# Altium footprint library 数码管.PcbLib: 7 footprints
Each footprint in its own frame and in the unit in brackets; x right, y up, seen from the top. Pads: shape width x height; smd on the part's side, far side on the other; paste and mask are expansions set on the pad; w line width, h text height; cw(c..) or ccw(c..) is an arc to the next point about the centre after c.
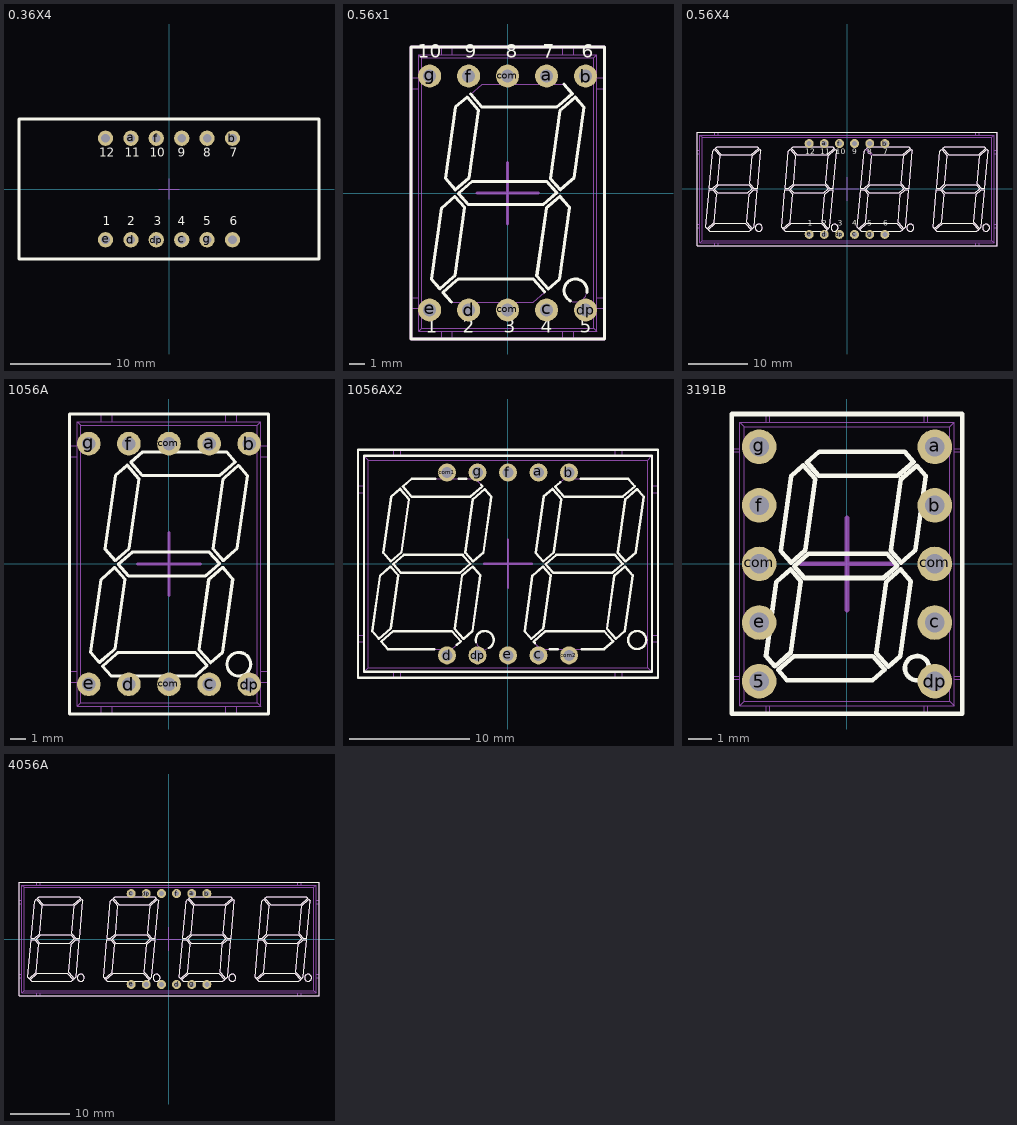
[diagram p0: the footprints below, top view; thin cyan lines are the x and y axes]

## 0.36X4 [mil] "4位0.36寸数码管"
pads (12):
  round 60 hole 33.46: a(-150,200) b(250,200) c(50,-200) com1(-250,200) com2(50,200) com3(150,200) com4(250,-200) d(-150,-200) dp(-50,-200) e(-250,-200) f(-50,200) g(150,-200)
Top Overlay:
  lines w10: -590.55,-275.59 590.55,-275.59 590.55,275.59 -590.55,275.59 -590.55,-275.59
  text "1" at -260,-155 h60
  text "2" at -165,-155 h60
  text "3" at -60,-155 h60
  text "4" at 35,-155 h60
  text "5" at 135,-155 h60
  text "6" at 240,-155 h60
  text "7" at 240,115 h60
  text "8" at 135,115 h60
  text "9" at 35,115 h60
  text "10" at -75,115 h60
  text "11" at -175,115 h60
  text "12" at -275,115 h60
Mechanical 13:
  lines w3.94: -590.55,-275.59 590.55,-275.59 590.55,275.59 -590.55,275.59 -590.55,-275.59
Mechanical 15:
  lines w3.94: -39.37,0 39.37,0 ; 0,-39.37 0,39.37
3D body: height 283.46, standoff -118.11, extent -590.56,-275.99 590.54,275.58

## 0.56x1 [mm] "1位0.56寸数码管"
height 8
pads (10):
  round 1.5 hole 0.85 unplated: a(2.54,7.62) b(5.08,7.62) c(2.54,-7.62) com(0,-7.62) com(0,7.62) d(-2.54,-7.62) dp(5.08,-7.62) e(-5.08,-7.62) f(-2.54,7.62) g(-5.08,7.62)
Top Overlay:
  lines w0.2: -3.666,-7.1 -4.214,-6.466 -3.353,-5.719 -3.222,-5.606 1.67,-5.606 2.41,-6.451 ; -2.415,6.449 -1.686,5.606 3.217,5.606 3.347,5.719 4.211,6.466 3.663,7.1 ; 4.103,-7.029 cw(c4.423,-6.35) 5.159,-6.492 ; -6.3,-9.5 -6.3,9.5 6.3,9.5 6.3,-9.5 -6.3,-9.5 ; -4.962,-5.601 -4.314,-0.987 -3.435,-0.218 -2.797,-0.95 -3.42,-5.38 -3.55,-5.492 -4.41,-6.239 -4.962,-5.601 ; -4.043,0.938 -3.41,0.212 -2.526,0.976 -1.905,5.4 -2.642,6.253 -3.387,5.609 -4.043,0.938 ; -3.209,-0.02 -2.329,0.75 2.563,0.75 3.207,0.015 2.322,-0.75 -2.57,-0.75 -3.209,-0.02 ; 1.897,-5.409 2.52,-0.977 2.65,-0.863 3.404,-0.212 3.956,-0.85 4.042,-0.949 3.387,-5.606 2.637,-6.255 1.897,-5.409 ; 2.79,0.946 3.434,0.211 4.182,0.858 4.312,0.972 4.962,5.598 4.407,6.239 3.543,5.492 3.413,5.378 2.79,0.946
  text "1" at -5.334,-9.398 h1.52
  text "2" at -2.921,-9.398 h1.52
  text "3" at -0.254,-9.398 h1.52
  text "4" at 2.159,-9.398 h1.52
  text "5" at 4.699,-9.398 h1.52
  text "6" at 4.826,8.509 h1.52
  text "7" at 2.286,8.509 h1.52
  text "8" at -0.127,8.509 h1.52
  text "9" at -2.794,8.509 h1.52
  text "10" at -5.842,8.509 h1.52
Mechanical 13:
  lines w0.01: -6.3,-9.501 -6.3,9.5 6.3,9.5 6.3,-9.501 -6.3,-9.501
  lines w0.2: -6.3,-9.51 6.3,-9.51 6.3,9.5 -6.3,9.5 -6.3,-9.51 ; -6.3,-9.51 -6.3,-9.51
Mechanical 15:
  drawing of 327 lines, arcs and shapes, not listed
3D body: height 8.1, standoff -2.9, extent -6.3,-9.51 6.3,9.5

## 0.56X4 [mm] "4位0.56寸数码管"
height 8
pads (12):
  round 1.5 hole 0.85 unplated: a(-3.81,7.62) b(6.35,7.62) c(1.27,-7.62) com1(-6.35,7.62) com2(1.27,7.62) com3(3.81,7.62) com4(6.35,-7.62) d(-3.81,-7.62) dp(-1.27,-7.62) e(-6.35,-7.62) f(-1.27,7.62) g(3.81,-7.62)
Top Overlay:
  drawing of 174 lines, arcs and shapes, not listed
  text "1" at -6.604,-6.477 h1.52
  text "2" at -4.191,-6.477 h1.52
  text "3" at -1.524,-6.477 h1.52
  text "4" at 0.889,-6.477 h1.52
  text "5" at 3.429,-6.477 h1.52
  text "6" at 6.096,-6.477 h1.52
  text "7" at 6.096,5.461 h1.52
  text "8" at 3.429,5.461 h1.52
  text "9" at 0.889,5.461 h1.52
  text "10" at -1.905,5.461 h1.52
  text "11" at -4.445,5.461 h1.52
  text "12" at -6.985,5.461 h1.52
Mechanical 13:
  lines w0.2: -25.15,-9.511 -25.15,9.5 25.15,9.5 25.15,-9.511 -25.15,-9.511
Mechanical 15:
  drawing of 230 lines, arcs and shapes, not listed
3D body: height 8.1, standoff -2.9, extent -25.15,-9.511 25.15,9.5

## 1056A [mm] "1056 5018数码管"
height 8
pads (10):
  round 1.5 hole 0.85 unplated: a(2.54,7.62) b(5.08,7.62) c(2.54,-7.62) com(0,-7.62) com(0,7.62) d(-2.54,-7.62) dp(5.08,-7.62) e(-5.08,-7.62) f(-2.54,7.62) g(-5.08,7.62)
Top Overlay:
  circle w0.2: c4.423,-6.35 r0.75
  lines w0.2: -6.3,-9.5 6.3,-9.5 6.3,9.5 -6.3,9.5 -6.3,-9.5 ; -4.962,-5.601 -4.41,-6.239 -3.55,-5.492 -3.42,-5.38 -2.797,-0.95 -3.435,-0.218 -4.314,-0.987 -4.962,-5.601 ; -4.214,-6.466 -3.666,-7.1 1.659,-7.1 2.41,-6.451 1.67,-5.606 -3.222,-5.606 -3.353,-5.719 -4.214,-6.466 ; -4.043,0.938 -3.387,5.609 -2.642,6.253 -1.905,5.4 -2.526,0.976 -3.41,0.212 -4.043,0.938 ; -3.209,-0.02 -2.57,-0.75 2.322,-0.75 3.207,0.015 2.563,0.75 -2.329,0.75 -3.209,-0.02 ; -2.415,6.449 -1.662,7.1 3.663,7.1 4.211,6.466 3.347,5.719 3.217,5.606 -1.686,5.606 -2.415,6.449 ; 1.897,-5.409 2.637,-6.255 3.387,-5.606 4.042,-0.949 3.956,-0.85 3.404,-0.212 2.65,-0.863 2.52,-0.977 1.897,-5.409 ; 2.79,0.946 3.413,5.378 3.543,5.492 4.407,6.239 4.962,5.598 4.312,0.972 4.182,0.858 3.434,0.211 2.79,0.946
Mechanical 13:
  lines w0.01: -6.3,-9.501 6.3,-9.501 6.3,9.5 -6.3,9.5 -6.3,-9.501
Mechanical 15:
  drawing of 327 lines, arcs and shapes, not listed
3D body: height 8.1, standoff -2.9, extent -6.3,-9.501 6.3,9.5

## 1056AX2 [mm] "0.5寸 2位七段数码管"
height 8
pads (10):
  round 1.5 hole 0.9: a(2.54,7.62) b(5.08,7.62) c(2.54,-7.62) com1(-5.08,7.62) com2(5.08,-7.62) d(-5.08,-7.62) dp(-2.54,-7.62) e(0,-7.62) f(0,7.62) g(-2.54,7.62)
Top Overlay:
  circle w0.2: c10.763,-6.34 r0.75
  lines w0.2: -6.121,-7.1 -10.016,-7.1 -10.564,-6.466 -9.573,-5.606 -4.68,-5.606 -3.94,-6.451 -4.277,-6.742 ; -6.071,7.1 -8.012,7.1 -8.765,6.449 -8.036,5.606 -3.135,5.606 -2.139,6.466 -2.247,6.591 ; -4.115,7.1 -3.48,7.1 ; -2.663,-6.527 cw(c-1.937,-6.34) -1.59,-7.005 ; 2.247,-6.594 2.136,-6.466 3.127,-5.606 8.02,-5.606 8.76,-6.451 8.009,-7.1 6.121,-7.1 ; 3.48,-7.1 4.14,-7.1 ; 4.346,6.804 3.935,6.449 4.664,5.606 9.565,5.606 10.561,6.466 10.013,7.1 6.071,7.1 ; -12.5,-9.5 -12.5,9.5 12.5,9.5 12.5,-9.5 -12.5,-9.5 ; -12,-9 -12,9 12,9 12,-9 -12,-9 ; -11.312,-5.601 -10.76,-6.239 -9.77,-5.379 -9.147,-0.95 -9.785,-0.218 -10.664,-0.987 -11.312,-5.601 ; -10.393,0.938 -9.737,5.609 -8.992,6.253 -8.255,5.4 -8.876,0.976 -9.76,0.212 -10.393,0.938 ; -9.559,-0.02 -8.92,-0.75 -4.028,-0.75 -3.143,0.015 -3.787,0.75 -8.679,0.75 -9.559,-0.02 ; -4.453,-5.409 -3.713,-6.255 -2.963,-5.606 -2.308,-0.949 -2.946,-0.212 -3.83,-0.976 -4.453,-5.409 ; -3.56,0.946 -2.937,5.38 -1.943,6.239 -1.388,5.598 -2.039,0.97 -2.916,0.211 -3.56,0.946 ; 1.388,-5.601 1.94,-6.239 2.93,-5.379 3.553,-0.95 2.915,-0.218 2.036,-0.987 1.388,-5.601 ; 2.307,0.938 2.963,5.609 3.708,6.253 4.445,5.4 3.824,0.976 2.94,0.212 2.307,0.938 ; 3.141,-0.02 4.021,0.75 8.913,0.75 9.557,0.015 8.672,-0.75 3.78,-0.75 3.141,-0.02 ; 8.247,-5.409 8.987,-6.255 9.737,-5.606 10.392,-0.949 9.754,-0.212 8.87,-0.976 8.247,-5.409 ; 9.14,0.946 9.784,0.211 10.661,0.97 11.312,5.598 10.757,6.239 9.763,5.38 9.14,0.946
Mechanical 13:
  lines w0.05: -12.5,-9.511 -12.5,9.5 12.5,9.5 12.5,-9.511 -12.5,-9.511
Mechanical 15:
  drawing of 350 lines, arcs and shapes, not listed
3D body: height 8, standoff -3, extent -12.5,-9.511 12.5,9.5

## 3191B [mm] "3191B数码管"
height 7
pads (10):
  round 1.5 hole 0.85 unplated: 5(-3.81,-5.08) a(3.81,5.08) b(3.81,2.54) c(3.81,-2.54) com(-3.81,0) com(3.81,0) dp(3.81,-5.08) e(-3.81,-2.54) f(-3.81,2.54) g(-3.81,5.08)
Top Overlay:
  circle w0.2: c3.036,-4.518 r0.525
  lines w0.2: -5,-6.5 -5,6.5 5,6.5 5,-6.5 -5,-6.5 ; -3.51,-3.993 -3.058,-0.776 -2.445,-0.24 -2.001,-0.75 -2.435,-3.838 -3.125,-4.438 -3.51,-3.993 ; -2.988,-4.596 -2.297,-3.996 1.114,-3.996 1.63,-4.585 1.106,-5.038 -2.606,-5.038 -2.988,-4.596 ; -2.869,0.566 -2.428,0.06 -1.812,0.593 -1.378,3.677 -1.893,4.272 -2.412,3.823 -2.869,0.566 ; -2.287,-0.102 -1.674,0.435 1.736,0.435 2.185,-0.077 1.569,-0.611 -1.842,-0.611 -2.287,-0.102 ; -1.734,4.408 -1.226,3.82 2.192,3.82 2.283,3.9 2.885,4.421 2.503,4.862 -1.209,4.862 -1.734,4.408 ; 1.272,-3.859 1.706,-0.769 1.797,-0.689 2.322,-0.235 2.767,-0.749 2.311,-3.996 1.788,-4.448 1.272,-3.859 ; 1.895,0.572 2.343,0.059 2.865,0.511 2.955,0.59 3.409,3.815 3.022,4.262 2.42,3.741 2.329,3.662 1.895,0.572
Mechanical 15:
  drawing of 332 lines, arcs and shapes, not listed
3D body: height 6.1, standoff -2.9, extent -5,-6.5 5,6.501

## 4056A [mm] "4位数码管"
height 8
pads (12):
  round 1.5 hole 0.85 unplated: a(3.81,7.62) b(6.35,7.62) c(-6.35,7.62) com1(-3.81,-7.62) com2(-1.27,-7.62) com3(6.35,-7.62) com4(-1.27,7.62) d(1.27,-7.62) dp(-3.81,7.62) e(-6.35,-7.62) f(1.27,7.62) g(3.81,-7.62)
Top Overlay:
  drawing of 176 lines, arcs and shapes, not listed
Mechanical 15:
  drawing of 230 lines, arcs and shapes, not listed
3D body: height 8.1, standoff -2.9, extent -25.15,-9.501 25.15,9.5